# EAGLE library part ZX62-B-5PA (library DIPDAP)
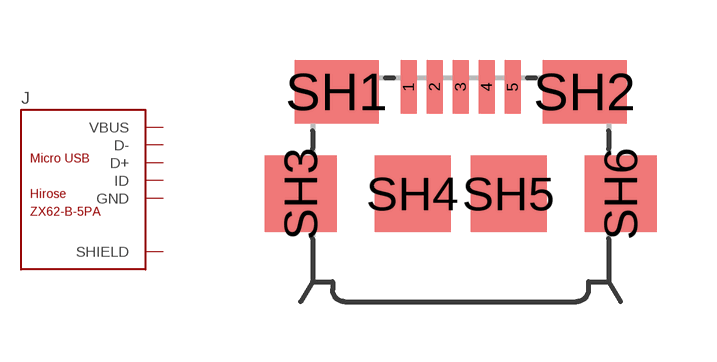
[diagram p0: symbol with the pads of ZX62-B-5PA(11); footprint ZX62-B-5PA(11)]

Designator prefix J

## ZX62-B-5PA  [ZX62-B-5PA(11)]
1  VBUS  sup
2  D-
3  D+
4  ID
5  GND  sup
SH1  SHIELD  sup
SH2  SHIELD  sup
SH3  SHIELD  sup
SH4  SHIELD  sup
SH5  SHIELD  sup
SH6  SHIELD  sup

## Footprint ZX62-B-5PA(11) (pad centres in mm)
Hirose ZX62-B-5PA(11) <http://www.hirose.co.jp/catalogj_hp/j24200011.pdf> Micro USB B Receptacle.
smd 0.4 x 1.35: 1 -1.3,2.675; 2 -0.65,2.675; 3 0,2.675; 4 0.65,2.675; 5 1.3,2.675
smd 2.1 x 1.6: SH1 -3.1,2.55; SH2 3.1,2.55
smd 1.8 x 1.9: SH3 -4,0; SH6 4,0
smd 1.9 x 1.9: SH4 -1.2,0; SH5 1.2,0